# EAGLE library part ADE7953 (library analog-devices)
Multifunction Metering IC
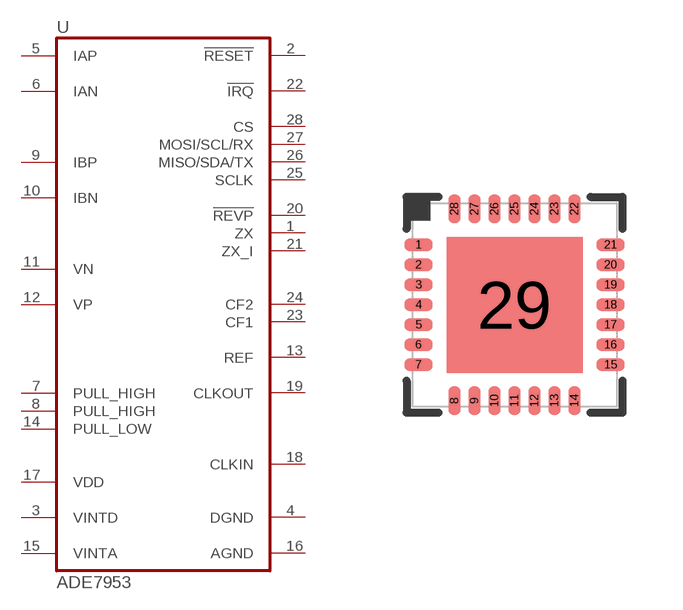
[diagram p59: symbol with the pads of LFCSP28_WQ; footprint LFCSP28_WQ]

Designator prefix U

## ADE7953  [LFCSP28_WQ]
1  ZX  out
2  !RESET!  in
3  VINTD  pas
4  DGND  pwr
5  IAP  in
6  IAN  in
7  PULL_HIGH
8  PULL_HIGH
9  IBP  in
10  IBN  in
11  VN  in
12  VP  in
13  REF  hiz
14  PULL_LOW
15  VINTA
16  AGND  pwr
17  VDD
18  CLKIN  in
19  CLKOUT  out
20  !REVP!  out
21  ZX_I  out
22  !IRQ!
23  CF1  out
24  CF2  out
25  SCLK
26  MISO/SDA/TX
27  MOSI/SCL/RX
28  CS

## Footprint LFCSP28_WQ (pad centres in mm)
28-Lead Lead Frame Chip Scale 5 mm × 5 mm Body, Very Very Thin Quad (CP-28-6)
smd 0.7 x 0.3: 1 -2.4,1.5; 2 -2.4,1; 3 -2.4,0.5; 4 -2.4,0; 5 -2.4,-0.5; 6 -2.4,-1; 7 -2.4,-1.5; 15 2.4,-1.5; 16 2.4,-1; 17 2.4,-0.5; 18 2.4,0; 19 2.4,0.5; 20 2.4,1; 21 2.4,1.5
smd 0.3 x 0.7: 8 -1.5,-2.4; 9 -1,-2.4; 10 -0.5,-2.4; 11 0,-2.4; 12 0.5,-2.4; 13 1,-2.4; 14 1.5,-2.4; 22 1.5,2.4; 23 1,2.4; 24 0.5,2.4; 25 0,2.4; 26 -0.5,2.4; 27 -1,2.4; 28 -1.5,2.4
smd 3.4 x 3.4: 29 0,0